# Altium schematic symbol library 333-2SURD_S530-A31_333-2SURD_S530-A3.SCHLIB: 1 symbol
Pins are listed as number, name and electrical type; pins without a type are passive.

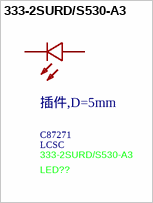
[diagram p0: symbol 333-2SURD/S530-A3]

## 333-2SURD/S530-A3
designator LED??  Supplier: LCSC  Supplier Part: C87271  Supplier Footprint: 插件,D=5mm
Manufacturer: EVERLIGHT(亿光); Lamp Holder Type: 5 mm round LED; Add into BOM: yes; Illumination Color: Red; Voltage - Forward(Vf): 2V; Forward Current: 20mA; Wavelength - Dominant: 624nm; Peak Wavelength: 632nm; Lens Color: Red Lens; Luminous Intensity: 200mcd; Viewing Angle: 30°; Symbol: 333-2SURD/S530-A3; Device: 333-2SURD/S530-A3; Manufacturer Part: 333-2SURD/S530-A3; LCSC Part Name: 5mm圆形灯头 红色; JLCPCB Part Class: Extended Part; Datasheet: https://en.everlight.com/wp-content/plugins/ItemRelationship/product_files/pdf/333-2SURD-S530-A3.pdf; Convert to PCB: yes
footprint LED-TH_BD5.9-P2.54-RD_RED
3D model LED-TH_BD5.9-P2.54-RD_RED
pins: 1 C, 2 A